# Altium footprint library Alarms - Buzzers - Sirens.PcbLib: 1 footprints
Each footprint in its own frame and in the unit in brackets; x right, y up, seen from the top. Pads: shape width x height; smd on the part's side, far side on the other; paste and mask are expansions set on the pad; w line width, h text height; cw(c..) or ccw(c..) is an arc to the next point about the centre after c.
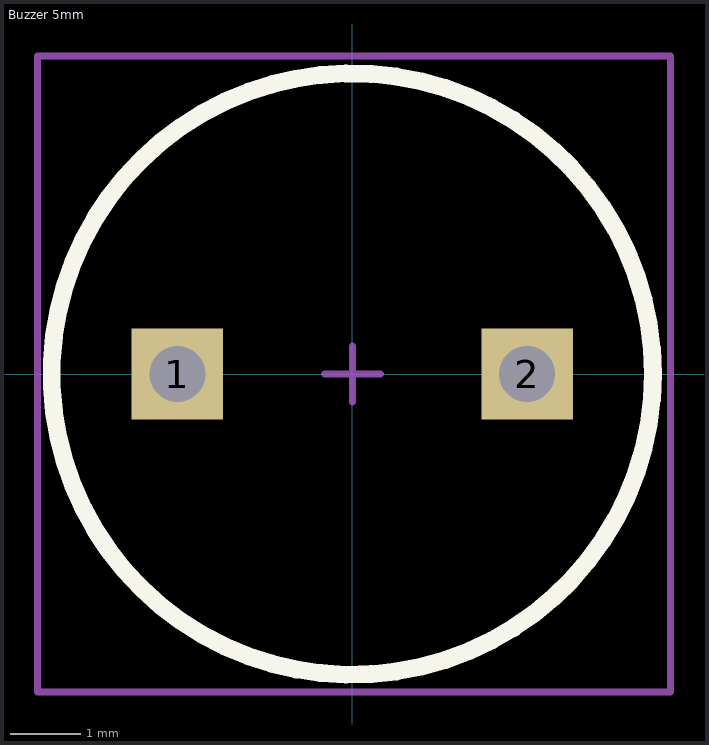
[diagram p0: the footprint, top view; thin cyan lines are the x and y axes]

## Buzzer 5mm [mm] "5mm"
pads (2):
  rect 1.308x1.308 hole 0.8 mask+0.05: 1(-2.5,0) 2(2.5,0)
Top Overlay:
  circle w0.254: c0,0 r4.3
Top Component Center:
  lines w0.1: -0.4,0 0.4,0 ; 0,-0.4 0,0.4 ; -4.5,-4.55 -4.5,4.55 4.55,4.55 4.55,-4.55 -4.5,-4.55
Top Designator:
  lines w0.1: -4.501,-4.55 4.549,-4.55 4.549,4.55 -4.501,4.55 -4.501,-4.55
  text ".Designator" at 0.7,1.467 h0.5
3D body "Buzzer 9 mm.SLDPRT": height 5.7, standoff -4.8, extent -4.46,-4.5 4.54,4.5